# EAGLE library part 4050434-4020269 (library ampex)
Record/EQ Combo Cards
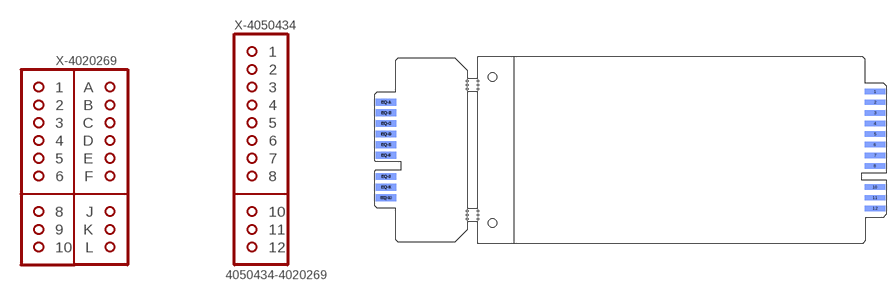
[diagram p11: symbol with the pads of 4050434-4020269; footprint 4050434-4020269]

Designator prefix X; gates -4020269=4020269 -4050434=4050434

## 4050434-4020269  [4050434-4020269]
1  -4050434:1  pas
2  -4050434:2  pas
3  -4050434:3  pas
4  -4050434:4  pas
5  -4050434:5  pas
6  -4050434:6  pas
7  -4050434:7  pas
8  -4050434:8  pas
10  -4050434:10  pas
11  -4050434:11  pas
12  -4050434:12  pas
EQ-1  -4020269:1  pas
EQ-2  -4020269:2  pas
EQ-3  -4020269:3  pas
EQ-4  -4020269:4  pas
EQ-5  -4020269:5  pas
EQ-6  -4020269:6  pas
EQ-8  -4020269:8  pas
EQ-9  -4020269:9  pas
EQ-10  -4020269:10  pas
EQ-A  -4020269:A  pas
EQ-B  -4020269:B  pas
EQ-C  -4020269:C  pas
EQ-D  -4020269:D  pas
EQ-E  -4020269:E  pas
EQ-F  -4020269:F  pas
EQ-J  -4020269:J  pas
EQ-K  -4020269:K  pas
EQ-L  -4020269:L  pas

## Footprint 4050434-4020269 (pad centres in mm)
RECORD/EQ COMBO Grid 0.00975"
smd 7.62 x 2.032 bottom: 1 74.968,21.793; 2 74.968,17.831; 3 74.968,13.868; 4 74.968,9.906; 5 74.968,5.944; 6 74.968,1.981; 7 74.968,-1.981; 8 74.968,-5.944; 10 74.968,-13.868; 11 74.968,-17.831; 12 74.968,-21.793
smd 7.62 x 2.54: EQ-1 -107.626,17.85; EQ-2 -107.626,13.887; EQ-3 -107.626,9.925; EQ-4 -107.626,5.963; EQ-5 -107.626,2; EQ-6 -107.626,-1.962; EQ-8 -107.626,-9.887; EQ-9 -107.626,-13.849; EQ-10 -107.626,-17.812
smd 7.62 x 2.54 bottom: EQ-A -107.626,17.85; EQ-B -107.626,13.887; EQ-C -107.626,9.925; EQ-D -107.626,5.963; EQ-E -107.626,2; EQ-F -107.626,-1.962; EQ-J -107.626,-9.887; EQ-K -107.626,-13.849; EQ-L -107.626,-17.812
hole 3.048 at -67.856,27.241
hole 3.048 at -67.856,-27.241
hole 0.66 at -77.267,25.756
hole 0.66 at -73.304,25.756
hole 0.66 at -77.267,24.27
hole 0.66 at -73.304,24.27
hole 0.66 at -77.267,-24.27
hole 0.66 at -73.304,-24.27
hole 0.66 at -77.267,-25.756
hole 0.66 at -73.304,-25.756
hole 0.66 at -77.267,-22.784
hole 0.66 at -73.304,-22.784
hole 0.66 at -77.267,22.784
hole 0.66 at -73.304,22.784